# Altium schematic symbol library Bridge2.Schlib: 1 symbol
Pins are listed as number, name and electrical type; pins without a type are passive.

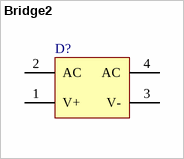
[diagram p0: symbol Bridge2]

## Bridge2
designator D?
Diode Bridge
pins: 1 V+, 2 AC, 3 V-, 4 AC